# Altium footprint library WQFN-32_TI.PcbLib: 1 footprints
Each footprint in its own frame and in the unit in brackets; x right, y up, seen from the top. Pads: shape width x height; smd on the part's side, far side on the other; paste and mask are expansions set on the pad; w line width, h text height; cw(c..) or ccw(c..) is an arc to the next point about the centre after c.
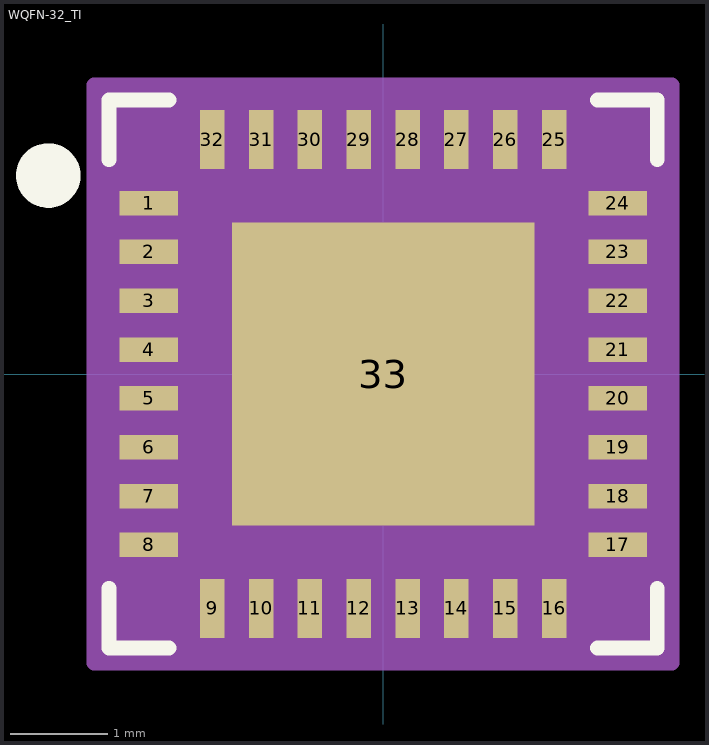
[diagram p0: the footprint, top view; thin cyan lines are the x and y axes]

## WQFN-32_TI [mm]
pads (33):
  rect 0.6x0.25 smd: 1(-2.4,1.75) 2(-2.4,1.25) 3(-2.4,0.75) 4(-2.4,0.25) 5(-2.4,-0.25) 6(-2.4,-0.75) 7(-2.4,-1.25) 8(-2.4,-1.75) 17(2.4,-1.75) 18(2.4,-1.25) 19(2.4,-0.75) 20(2.4,-0.25) 21(2.4,0.25) 22(2.4,0.75) 23(2.4,1.25) 24(2.4,1.75)
  rect 0.25x0.6 smd: 9(-1.75,-2.4) 10(-1.25,-2.4) 11(-0.75,-2.4) 12(-0.25,-2.4) 13(0.25,-2.4) 14(0.75,-2.4) 15(1.25,-2.4) 16(1.75,-2.4) 25(1.75,2.4) 26(1.25,2.4) 27(0.75,2.4) 28(0.25,2.4) 29(-0.25,2.4) 30(-0.75,2.4) 31(-1.25,2.4) 32(-1.75,2.4)
  rect 3.1x3.1 smd paste-1.549: 33(0,0)
Top Overlay:
  circle w0.406: c-3.429,2.032 r0.127
  lines w0.152: -2.807,-2.194 -2.807,-2.807 -2.194,-2.807 ; -2.807,2.194 -2.807,2.807 -2.194,2.807 ; 2.194,-2.807 2.807,-2.807 2.807,-2.194 ; 2.194,2.807 2.807,2.807 2.807,2.194
Top Paste:
  region: -0.1,1.395 -1.395,1.395 -1.395,0.1 -0.1,0.1
  region: -0.1,-0.1 -1.395,-0.1 -1.395,-1.395 -0.1,-1.395
  region: 1.395,1.395 0.1,1.395 0.1,0.1 1.395,0.1
  region: 1.395,-0.1 0.1,-0.1 0.1,-1.395 1.395,-1.395
Mechanical 13:
  lines w0.025: -2.603,-2.603 -2.603,2.604 2.604,2.604 2.604,-2.603 -2.603,-2.603
Mechanical 15:
  region: 2.959,-2.959 -2.959,-2.959 -2.959,2.959 2.959,2.959
  lines w0.152: -2.959,-2.959 -2.959,2.959 2.959,2.959 2.959,-2.959 -2.959,-2.959
3D body: height 0.25, standoff 0, extent 0,0 0.254,0.254
3D body "SQA32A.stp": height 0.71, standoff 0, extent -2.603,-2.603 2.604,2.604